# Altium footprint library Logic.PcbLib: 2 footprints
Each footprint in its own frame and in the unit in brackets; x right, y up, seen from the top. Pads: shape width x height; smd on the part's side, far side on the other; paste and mask are expansions set on the pad; w line width, h text height; cw(c..) or ccw(c..) is an arc to the next point about the centre after c.
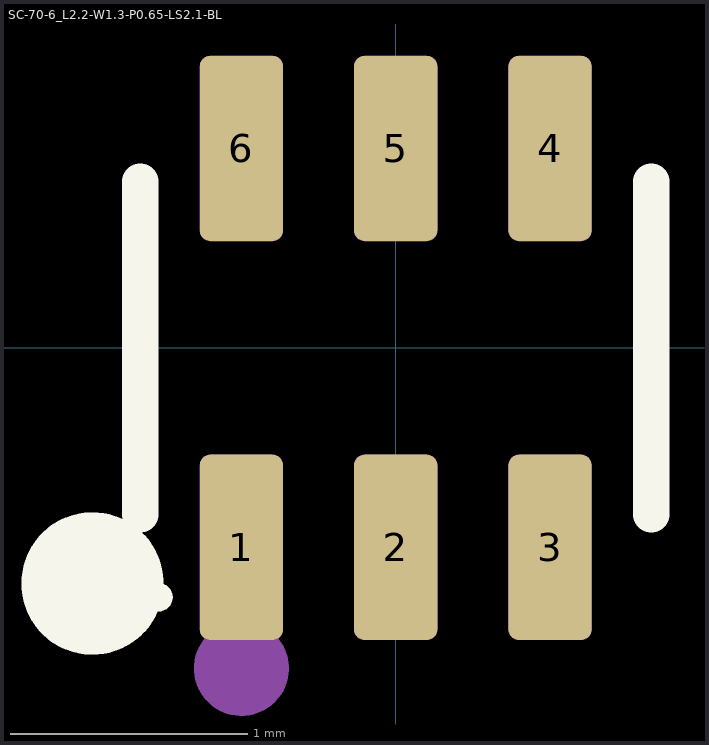
[diagram p0: the footprints below, top view; thin cyan lines are the x and y axes]

## PCBComponent_1 [mm]

## SC-70-6_L2.2-W1.3-P0.65-LS2.1-BL [mm] "SC-70-6; -; SC-70-6(SOT-363); SC-88-6; SOT-26; SC-70-6L; SOT-363-6(SC-70-6); SOT-363-6; SOT-363-6(SC-70); SOT-363; SOT-323-6; SOT-363(SC-70-6); SC-70(SC-70-3); SC-70; SC-88(SC-70-6); SC70-6"
height -909.212
pads (6):
  rrect25% 0.35x0.78 smd mask+0.05: 1(-0.65,-0.84) 2(0,-0.84) 3(0.65,-0.84) 4(0.65,0.84) 5(0,0.84) 6(-0.65,0.84)
Top Overlay:
  circle w0.3: c-1.277,-0.992 r0.15
  region: -0.94,-1.05 -0.941,-1.038 -0.945,-1.027 -0.95,-1.017 -0.958,-1.008 -0.967,-1 -0.977,-0.995 -0.988,-0.991 -1,-0.99 -1.012,-0.991 -1.023,-0.995 -1.033,-1 -1.042,-1.008 -1.05,-1.017 -1.055,-1.027 -1.059,-1.038 -1.06,-1.05 -1.059,-1.062 -1.055,-1.073 -1.05,-1.083 -1.042,-1.092 -1.033,-1.1 -1.023,-1.105 -1.012,-1.109 -1,-1.11 -0.988,-1.109 -0.977,-1.105 -0.967,-1.1 -0.958,-1.092 -0.95,-1.083 -0.945,-1.073 -0.941,-1.062
  lines w0.152: -1.076,-0.701 -1.076,0.701 ; 1.076,-0.701 1.076,0.701
Mechanical 2:
  circle w0.2: c-0.65,-1.35 r0.1
Mechanical 9:
  drawing of 6 lines, arcs and shapes, not listed
3D body "SC-70-6_L2.0-W1.3-H1.0-P0.65.step": height 1, standoff 0, extent -1,-0.625 1,0.625